# EAGLE library part LTV-846S (library LTV-846S)
Optocoupler Transistor O/P, 80V, SMD16 Lite-On LTV-846S DC Input Transistor Output Quad Optocoupler, Surface Mount, 16-Pin PDIP Source: Datasheet <http://optoelectronics.liteon.com/upload/download/DS-70-97-0013/S_110_LTV-816 826 846 (M, S, S-TA, S-TA1, S-TP) Series.pdf>
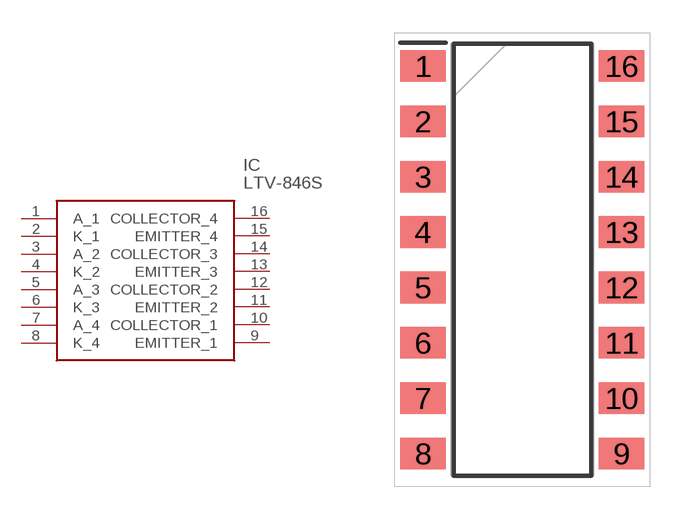
[diagram p0: symbol with the pads of SOP254P1016X460-16N; footprint SOP254P1016X460-16N]

Designator prefix IC

## LTV-846S (Allied_Number: R1038113; Allied_Price-Stock: http://www.alliedelec.com/lite-on-ltv-846s/R1038113/; Description: Optocoupler Transistor O/P, 80V, SMD16 Lite-On LTV-846S DC Input Transistor Output Quad Optocoupler, Surface Mount, 16-Pin PDIP; Height: 4.6mm; Manufacturer_Name: Lite-On; Manufacturer_Part_Number: LTV-846S; Mouser_Part_Number: 859-LTV-846S; Mouser_Price-Stock: https://www.mouser.com/Search/Refine.aspx?Keyword=859-LTV-846S; RS_Part_Number: 1689678; RS_Price-Stock: http://uk.rs-online.com/web/p/products/1689678)  [SOP254P1016X460-16N]
1  A_1
2  K_1
3  A_2
4  K_2
5  A_3
6  K_3
7  A_4
8  K_4
9  EMITTER_1
10  COLLECTOR_1
11  EMITTER_2
12  COLLECTOR_2
13  EMITTER_3
14  COLLECTOR_3
15  EMITTER_4
16  COLLECTOR_4

## Footprint SOP254P1016X460-16N (pad centres in mm)
LTV-846S
smd 2.1 x 1.45: 1 -4.55,8.89; 2 -4.55,6.35; 3 -4.55,3.81; 4 -4.55,1.27; 5 -4.55,-1.27; 6 -4.55,-3.81; 7 -4.55,-6.35; 8 -4.55,-8.89; 9 4.55,-8.89; 10 4.55,-6.35; 11 4.55,-3.81; 12 4.55,-1.27; 13 4.55,1.27; 14 4.55,3.81; 15 4.55,6.35; 16 4.55,8.89